# Altium schematic symbol library Connect.SchLib: 33 symbols
Pins are listed as number, name and electrical type; pins without a type are passive.

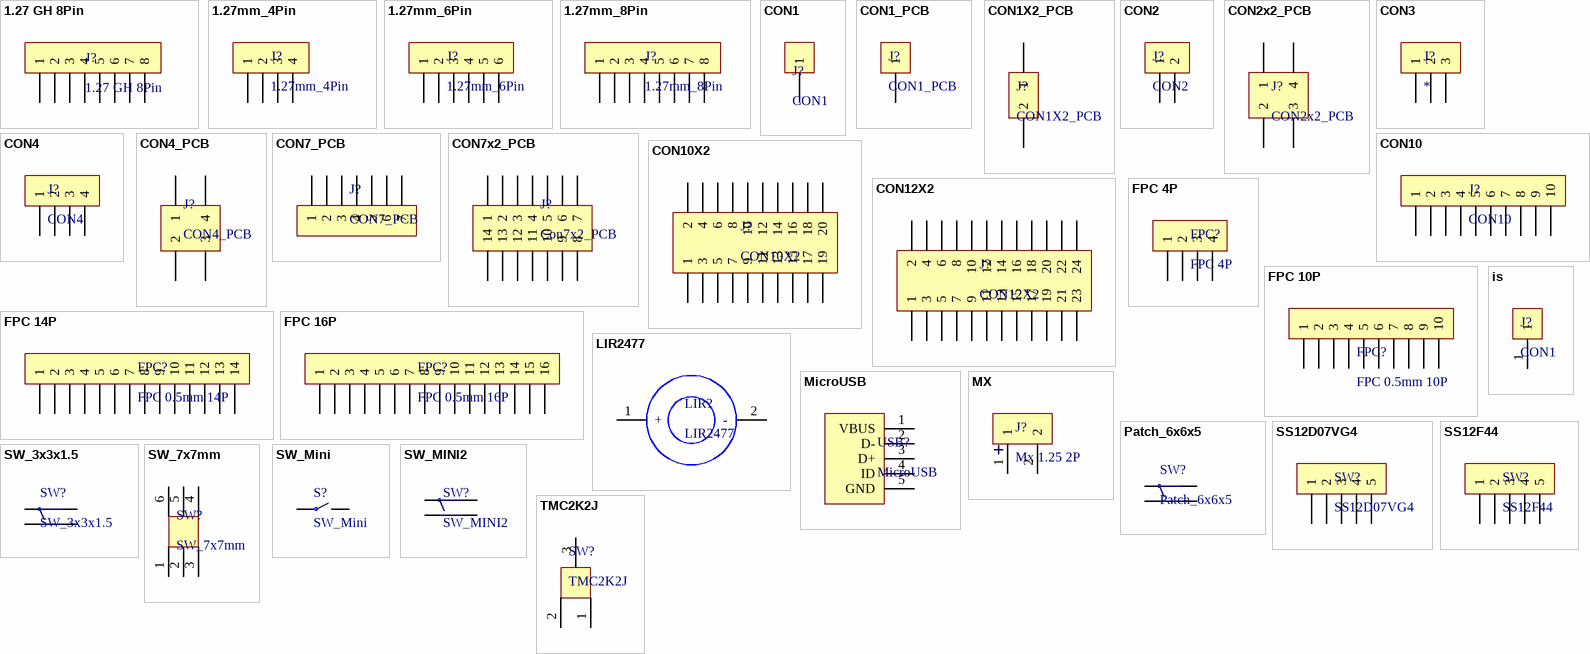
[diagram p0: symbols 1.27 GH 8Pin to TMC2K2J]

## 1.27 GH 8Pin
designator J?
Attributes: 连接件; Purchase: *
footprint 1.27 GH 8Pin
pins: 1, 2, 3, 4, 5, 6, 7, 8

## 1.27mm_4Pin
designator J?
footprint 1.27mm_4pin
pins: 1, 2, 3, 4

## 1.27mm_6Pin
designator J?
footprint 1.27mm_6Pin
pins: 1, 2, 3, 4, 5, 6

## 1.27mm_8Pin
designator J?
footprint 1.27mm_8
pins: 1, 2, 3, 4, 5, 6, 7, 8

## CON1
designator J?
Attributes: 2.54; Purchase: *
footprint CON1
footprint 5MM
footprint 2.5MM
footprint 2.4mm
footprint 0.5mm
footprint 6.5mm
footprint 6.6mm
footprint 3.75mm
pins: 1

## CON1_PCB
designator J?
footprint CON1_PCB
pins: 1

## CON1X2_PCB
designator J?
footprint CON1X2_PCB
pins: 1, 2

## CON2
designator J?
Attributes: *
footprint CON2
footprint Battry_Connector
footprint HCHO_Connect
pins: 1, 2

## CON2x2_PCB
designator J?
footprint CON2x2_PCB
pins: 1, 2, 3, 4

## CON3
designator J?
footprint CON3
footprint Motor Connector
pins: 1, 2, 3

## CON4
designator J?
Attributes: *
footprint CON4
footprint Solder dot 4
footprint CON4 1.27mm
footprint CON2_PCB
pins: 1, 2, 3, 4

## CON4_PCB
designator J?
footprint CON4_PCB
pins: 1, 2, 3, 4

## CON7_PCB
designator J?
footprint CON7_PCB
pins: 1, 2, 3, 4, 5, 6, 7

## CON7x2_PCB
designator J?, comment Con7x2_PCB
footprint Con7x2_PCB
pins: 1, 2, 3, 4, 5, 6, 7, 8, 9, 10, 11, 12, 13, 14

## CON10
designator J?
footprint CON10
pins: 1, 2, 3, 4, 5, 6, 7, 8, 9, 10

## CON10X2
designator J?
footprint CON10x2
pins: 1, 2, 3, 4, 5, 6, 7, 8, 9, 10, 11, 12, 13, 14, 15, 16, 17, 18, 19, 20

## CON12X2
designator J?
footprint CON12X2
pins: 1, 2, 3, 4, 5, 6, 7, 8, 9, 10, 11, 12, 13, 14, 15, 16, 17, 18, 19, 20, 21, 22, 23, 24

## FPC 4P
designator FPC?
Purchase: 贴片座C9345 线 C15659; Attributes: *; Prices: 贴片座0.6  线 0.29
footprint FPC 0.5mm 4P
pins: 1, 2, 3, 4

## FPC 10P
designator FPC?, comment FPC 0.5mm 10P
Purchase: 座C11050线C14048; Attributes: 0.5mm 10P; Prices: 座0.248线0.176
footprint FPC 0.5mm 10P
pins: 1, 2, 3, 4, 5, 6, 7, 8, 9, 10

## FPC 14P
designator FPC?, comment FPC 0.5mm 14P
Purchase: C11087; Attributes: *; Prices: 0.278
footprint FPC 0.5mm 14P
pins: 1, 2, 3, 4, 5, 6, 7, 8, 9, 10, 11, 12, 13, 14

## FPC 16P
designator FPC?, comment FPC 0.5mm 16P
Purchase: 贴片座C11053  反向线C11114; Attributes: *; Prices: 座0.278 线0.378
footprint FPC 0.5mm 16P
pins: 1, 2, 3, 4, 5, 6, 7, 8, 9, 10, 11, 12, 13, 14, 15, 16

## is
designator J?, comment CON1
footprint isolated Slot 3X1
footprint isolated Slot 7X1
pins: 1

## LIR2477
designator LIR?
Attributes: 180mah; Purchase: Joe (闵东）http://www.czyufeng.com/   www.henlimax.com 0519-85019872 13813692865; Prices: 10.5
footprint LIR2477
footprint LIR2477_Inline
pins: 1 +, 2 -

## MicroUSB
designator USB?
Purchase: C10418; Attributes: *; Prices: 0.252
footprint MicroUSB
pins: 1 VBUS (power) "Power", 2 D- "-DATA", 3 D+ "+DATA", 4 ID (power) "Ground", 5 GND "Shield"

## MX
designator J?, comment Mx 1.25 2P
Attributes: 1.25MM 2P; Purchase: http://item.taobao.com/item.htm?spm=a1z09.2.9.156.1rfthg&id=38068751842&_u=mmljuuh0696 1; Prices: 0.15
footprint MX 1.25 2P
pins: 1, 2

## Patch_6x6x5
designator SW?
Purchase: C8212; Attributes: *; Prices: 0.0406
footprint Patch6x6x5
pins: 1, 2, 3, 4

## SS12D07VG4
designator SW?
Purchase: C9740; Attributes: *; Prices: 0.065
footprint SS12D07VG4 (Footprint not found)
pins: 1, 2, 3, 4, 5

## SS12F44
designator SW?
Purchase: http://detail.tmall.com/item.htm?spm=a230r.1.14.204.qN6CIr&id=13302149297&ns=1&abbucket=7; Attributes: *; Prices: *
footprint SS12F44
pins: 1, 2, 3, 4, 5

## SW_3x3x1.5
designator SW?
Attributes: *; Purchase: http://item.taobao.com/item.htm?spm=a230r.1.14.218.qiPCTa&id=44972294379&ns=1&abbucket=3#detail
footprint SW_3x3x1.5
pins: 1, 2, 3, 4

## SW_7x7mm
designator SW?
Attributes: *; Purchase: *; Prices: 0.227
footprint SW_7x7mm
pins: 1, 2, 3, 4, 5, 6

## SW_Mini
designator S?
Purchase: http://detail.tmall.com/item.htm?id=19820219411&spm=a1z09.2.9.33.hsCssa&_u=hmljuuh65b0; Prices: 0.85
footprint SW_Mini
pins: 1, 2

## SW_MINI2
designator SW?
Purchase: http://item.taobao.com/item.htm?spm=a230r.1.14.145.3fxJCW&id=39994106693&ns=1&abbucket=4#detail; Attributes: *
footprint SW_MINI2
pins: 1, 2, 3, 4

## TMC2K2J
designator SW?
Purchase: http://item.taobao.com/item.htm?spm=a230r.1.14.59.T7OLRv&id=40257113019&ns=1&_u=imljuuh77dc&abbucket=9#detail; Prices: 0.16; Attributes: *
footprint TMC2K2J
pins: 1, 2, 3